# Altium schematic symbol library 2009.SchLib: 216 symbols
Pins are listed as number, name and electrical type; pins without a type are passive.

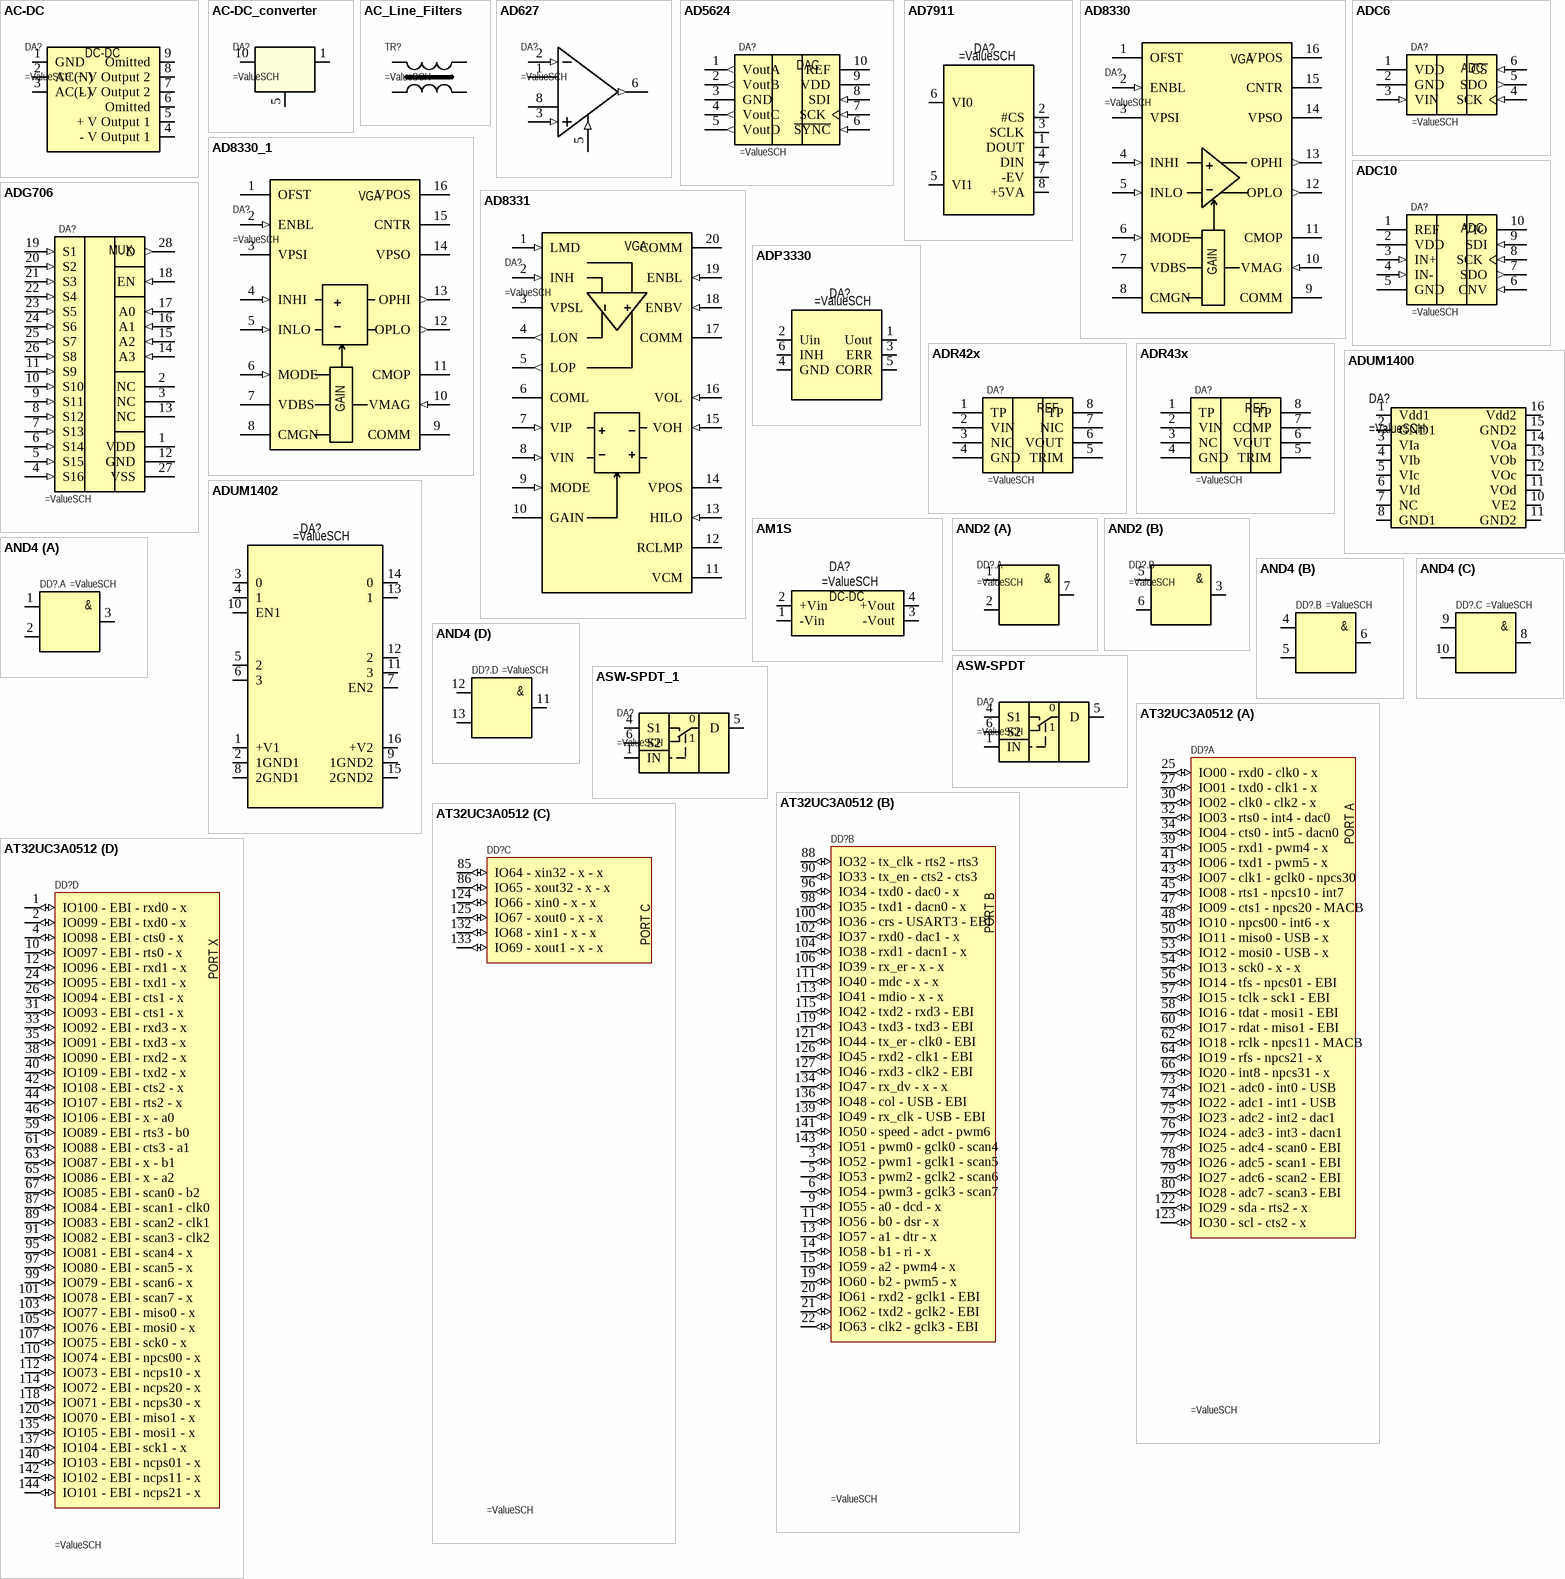
[diagram p0: symbols AC-DC to AT32UC3A0512]

## AC-DC
designator DA?
pins: 1 GND (power), 2 AC(N) (power), 3 AC(L) (power), 4 - V Output 1, 5 + V Output 1 (power), 6 Omitted, 7 - V Output 2, 8 + V Output 2 (power), 9 Omitted
text: DC-DC

## AC-DC_converter
designator DA?
pins: 1 Vout (power), 5 GND (power), 10 Vin (power)

## AC_Line_Filters
designator TR?
pins: 1, 2, 3, 4

## AD627
designator DA?
=Description
pins: 1 RG, 2 -IN (in), 3 +IN (in), 4 V- (power) hidden to GND, 5 REF (in), 6 OUT (out), 7 V+ (power) hidden to VCC, 8 RG

## AD5624
designator DA?
=Description
pins: 1 VoutA (out), 2 VoutB (out), 3 GND (power), 4 VoutC (out), 5 VoutD (out), 6 ~{SYNC} (in), 7 SCK (in), 8 SDI (in), 9 VDD (power), 10 REF (power)
text: DAC

## AD7911
designator DA?
pins: 1 DOUT, 2 #CS, 3 SCLK, 4 DIN, 5 VI1, 6 VI0, 7 -EV, 8 +5VA

## AD8330
designator DA?
=Description
pins: 1 OFST, 2 ENBL (in), 3 VPSI (power), 4 INHI (in), 5 INLO (in), 6 MODE (in), 7 VDBS (power), 8 CMGN, 9 COMM (power), 10 VMAG (in), 11 CMOP (power), 12 OPLO (out), 13 OPHI (out), 14 VPSO (power), 15 CNTR, 16 VPOS (power)
text: VGA; GAIN

## AD8330_1
designator DA?
=Description
pins: 1 OFST, 2 ENBL (in), 3 VPSI (power), 4 INHI (in), 5 INLO (in), 6 MODE (in), 7 VDBS (power), 8 CMGN, 9 COMM (power), 10 VMAG (in), 11 CMOP (power), 12 OPLO (out), 13 OPHI (out), 14 VPSO (power), 15 CNTR, 16 VPOS (power)
text: VGA; GAIN

## AD8331
designator DA?
=Description
pins: 1 LMD (in), 2 INH (in), 3 VPSL (power), 4 LON (out), 5 LOP (out), 6 COML (power), 7 VIP (in), 8 VIN (in), 9 MODE (in), 10 GAIN, 11 VCM (power), 12 RCLMP, 13 HILO (in), 14 VPOS (power), 15 VOH (in), 16 VOL (in), 17 COMM (power), 18 ENBV (in), 19 ENBL (in), 20 COMM (power)
text: VGA

## ADC6
designator DA?
=Description
pins: 1 VDD (power), 2 GND (power), 3 VIN (in), 4 SCK (in), 5 SDO (out), 6 ~{CS} (in)
text: ADC

## ADC10
designator DA?
=Description
pins: 1 REF (power), 2 VDD (power), 3 IN+ (in), 4 IN- (in), 5 GND (power), 6 CNV (in), 7 SDO (out), 8 SCK (in), 9 SDI (in), 10 VIO (power)
text: ADC

## ADG706
designator DA?
=Description
pins: 1 VDD (power), 2 NC, 3 NC, 4 S16 (in), 5 S15 (in), 6 S14 (in), 7 S13 (in), 8 S12 (in), 9 S11 (in), 10 S10 (in), 11 S9 (in), 12 GND (power), 13 NC, 14 A3 (in), 15 A2 (in), 16 A1 (in), 17 A0 (in), 18 EN (in), 19 S1 (in), 20 S2 (in), 21 S3 (in), 22 S4 (in), 23 S5 (in), 24 S6 (in), 25 S7 (in), 26 S8 (in), 27 VSS (power), 28 D (out)
text: MUX

## ADP3330
designator DA?
pins: 1 Uout, 2 Uin, 3 ERR, 4 GND, 5 CORR, 6 INH

## ADR42x
designator DA?
=Description
pins: 1 TP, 2 VIN (power), 3 NIC, 4 GND (power), 5 TRIM, 6 VOUT (power), 7 NIC, 8 TP
text: REF

## ADR43x
designator DA?
=Description
pins: 1 TP, 2 VIN (power), 3 NC, 4 GND (power), 5 TRIM, 6 VOUT (power), 7 COMP, 8 TP
text: REF

## ADUM1400
designator DA?
pins: 1 Vdd1, 2 GND1, 3 VIa, 4 VIb, 5 VIc, 6 VId, 7 NC, 8 GND1, 10 VE2, 11 VOd, 11 GND2, 12 VOc, 13 VOb, 14 VOa, 15 GND2, 16 Vdd2

## ADUM1402
designator DA?
pins: 1 +V1, 2 1GND1, 3 0, 4 1, 5 2, 6 3, 7 EN2, 8 2GND1, 9 1GND2, 10 EN1, 11 3, 12 2, 13 1, 14 0, 15 2GND2, 16 +V2

## AM1S
designator DA?
pins: 1 -Vin (power), 2 +Vin (power), 3 -Vout (power), 4 +Vout (power)
text: DC-DC

## AND2
designator DD?.
part A pins: 1, 2, 4 GND (power) hidden to GND, 7, 8 VCC (power) hidden to VCC
part B pins: 3, 4 GND (power) hidden to GND, 5, 6, 8 VCC (power) hidden to VCC
part A text: &
part B text: &

## AND4
designator DD?.
part A pins: 1, 2, 3, 7 GND (power) hidden to GND, 14 VCC (power) hidden to VCC
part B pins: 4, 5, 6, 7 GND (power) hidden to GND, 14 VCC (power) hidden to VCC
part C pins: 7 GND (power) hidden to GND, 8, 9, 10, 14 VCC (power) hidden to VCC
part D pins: 7 GND (power) hidden to GND, 11, 12, 13, 14 VCC (power) hidden to VCC
part A text: &
part B text: &
part C text: &
part D text: &

## ASW-SPDT
designator DA?
=Designator
pins: 1 IN, 2 VDD (power) hidden to +5V, 3 GND (power) hidden to GND, 4 S1, 5 D, 6 S2
text: 0

## ASW-SPDT_1
designator DA?
=Designator
pins: 1 IN, 2 VDD (power) hidden to +5V, 3 GND (power) hidden to GND, 4 S1, 5 D, 6 S2
text: 0

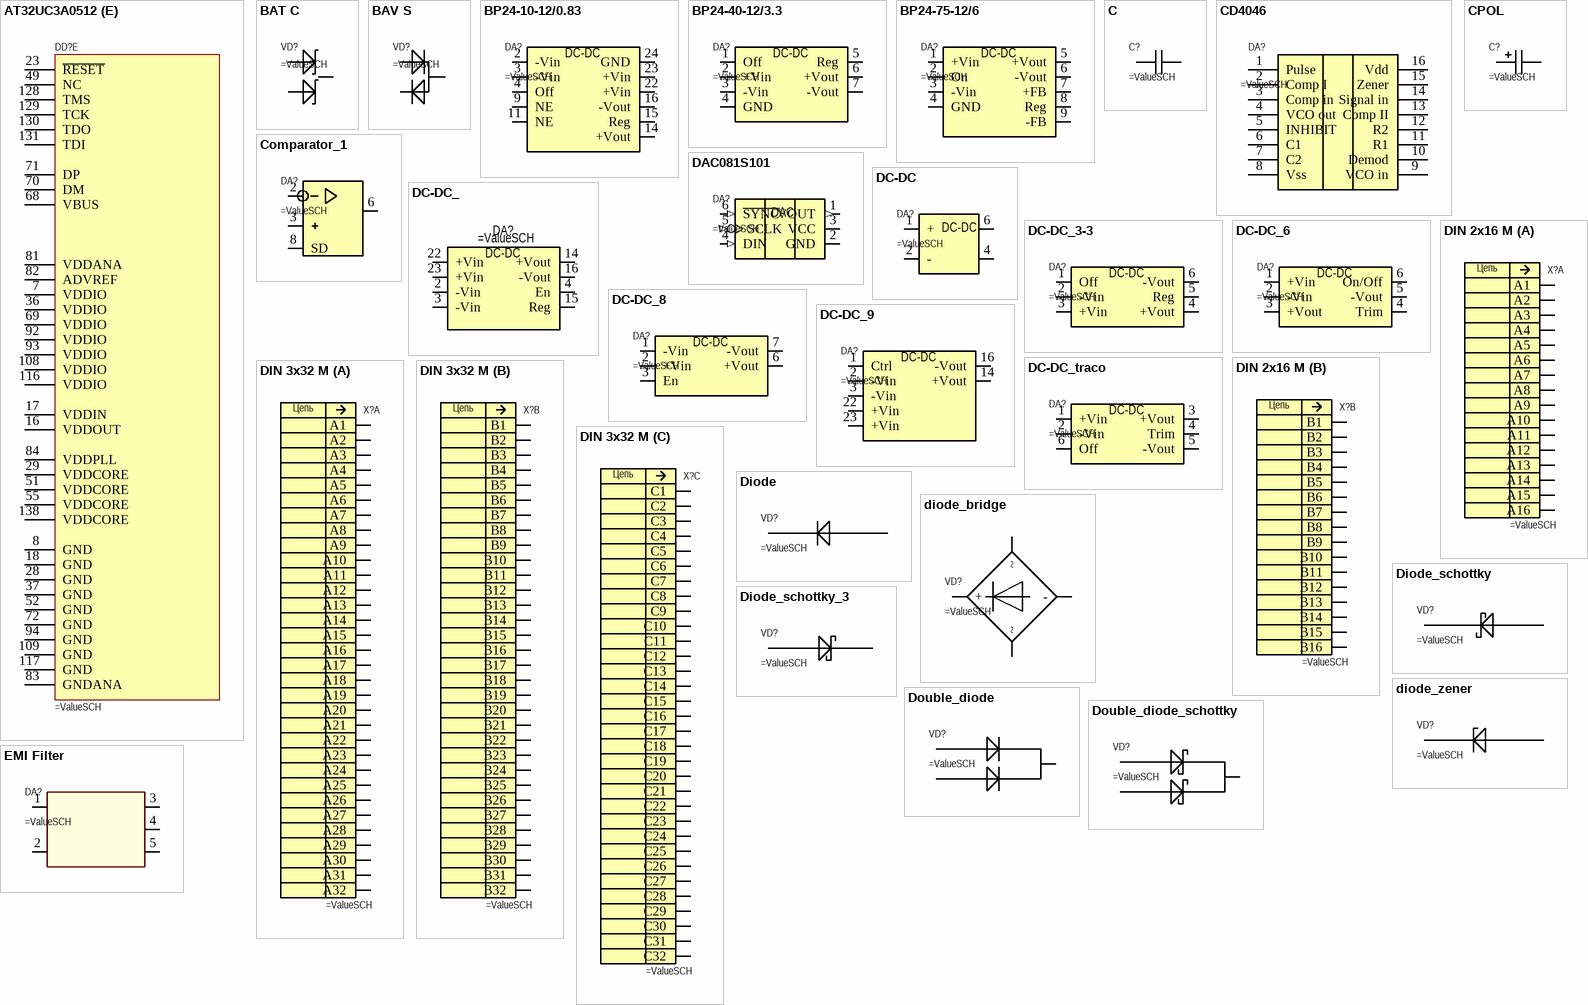
[diagram p1: symbols AT32UC3A0512 to EMI Filter]

## AT32UC3A0512
designator DD?
=Description; Value: *
footprint LQFP-144
part A pins: 25 IO00 - rxd0 - clk0 - x (io), 27 IO01 - txd0 - clk1 - x (io), 30 IO02 - clk0 - clk2 - x (io), 32 IO03 - rts0 - int4 - dac0 (io), 34 IO04 - cts0 - int5 - dacn0 (io), 39 IO05 - rxd1 - pwm4 - x (io), 41 IO06 - txd1 - pwm5 - x (io), 43 IO07 - clk1 - gclk0 - npcs30 (io), 45 IO08 - rts1 - npcs10 - int7 (io), 47 IO09 - cts1 - npcs20 - MACB (io), 48 IO10 - npcs00 - int6 - x (io), 50 IO11 - miso0 - USB - x (io), 53 IO12 - mosi0 - USB - x (io), 54 IO13 - sck0 - x - x (io), 56 IO14 - tfs - npcs01 - EBI (io), 57 IO15 - tclk - sck1 - EBI (io), 58 IO16 - tdat - mosi1 - EBI (io), 60 IO17 - rdat - miso1 - EBI (io), 62 IO18 - rclk - npcs11 - MACB (io), 64 IO19 - rfs - npcs21 - x (io), 66 IO20 - int8 - npcs31 - x (io), 73 IO21 - adc0 - int0 - USB (io), 74 IO22 - adc1 - int1 - USB (io), 75 IO23 - adc2 - int2 - dac1 (io), 76 IO24 - adc3 - int3 - dacn1 (io), 77 IO25 - adc4 - scan0 - EBI (io), 78 IO26 - adc5 - scan1 - EBI (io), 79 IO27 - adc6 - scan2 - EBI (io), 80 IO28 - adc7 - scan3 - EBI (io), 122 IO29 - sda - rts2 - x (io), 123 IO30 - scl - cts2 - x (io)
part B pins: 3 IO52 - pwm1 - gclk1 - scan5 (io), 5 IO53 - pwm2 - gclk2 - scan6 (io), 6 IO54 - pwm3 - gclk3 - scan7 (io), 9 IO55 - a0 - dcd - x (io), 11 IO56 - b0 - dsr - x (io), 13 IO57 - a1 - dtr - x (io), 14 IO58 - b1 - ri - x (io), 15 IO59 - a2 - pwm4 - x (io), 19 IO60 - b2 - pwm5 - x (io), 20 IO61 - rxd2 - gclk1 - EBI (io), 21 IO62 - txd2 - gclk2 - EBI (io), 22 IO63 - clk2 - gclk3 - EBI (io), 88 IO32 - tx_clk - rts2 - rts3 (io), 90 IO33 - tx_en - cts2 - cts3 (io), 96 IO34 - txd0 - dac0 - x (io), 98 IO35 - txd1 - dacn0 - x (io), 100 IO36 - crs - USART3 - EBI (io), 102 IO37 - rxd0 - dac1 - x (io), 104 IO38 - rxd1 - dacn1 - x (io), 106 IO39 - rx_er - x - x (io), 111 IO40 - mdc - x - x (io), 113 IO41 - mdio - x - x (io), 115 IO42 - txd2 - rxd3 - EBI (io), 119 IO43 - txd3 - txd3 - EBI (io), 121 IO44 - tx_er - clk0 - EBI (io), 126 IO45 - rxd2 - clk1 - EBI (io), 127 IO46 - rxd3 - clk2 - EBI (io), 134 IO47 - rx_dv - x - x (io), 136 IO48 - col - USB - EBI (io), 139 IO49 - rx_clk - USB - EBI (io), 141 IO50 - speed - adct - pwm6 (io), 143 IO51 - pwm0 - gclk0 - scan4 (io)
part C pins: 85 IO64 - xin32 - x - x (io), 86 IO65 - xout32 - x - x (io), 124 IO66 - xin0 - x - x (io), 125 IO67 - xout0 - x - x (io), 132 IO68 - xin1 - x - x (io), 133 IO69 - xout1 - x - x (io)
part D pins: 1 IO100 - EBI - rxd0 - x (io), 2 IO099 - EBI - txd0 - x (io), 4 IO098 - EBI - cts0 - x (io), 10 IO097 - EBI - rts0 - x (io), 12 IO096 - EBI - rxd1 - x (io), 24 IO095 - EBI - txd1 - x (io), 26 IO094 - EBI - cts1 - x (io), 31 IO093 - EBI - cts1 - x (io), 33 IO092 - EBI - rxd3 - x (io), 35 IO091 - EBI - txd3 - x (io), 38 IO090 - EBI - rxd2 - x (io), 40 IO109 - EBI - txd2 - x (io), 42 IO108 - EBI - cts2 - x (io), 44 IO107 - EBI - rts2 - x (io), 46 IO106 - EBI - x - a0 (io), 59 IO089 - EBI - rts3 - b0 (io), 61 IO088 - EBI - cts3 - a1 (io), 63 IO087 - EBI - x - b1 (io), 65 IO086 - EBI - x - a2 (io), 67 IO085 - EBI - scan0 - b2 (io), 87 IO084 - EBI - scan1 - clk0 (io), 89 IO083 - EBI - scan2 - clk1 (io), 91 IO082 - EBI - scan3 - clk2 (io), 95 IO081 - EBI - scan4 - x (io), 97 IO080 - EBI - scan5 - x (io), 99 IO079 - EBI - scan6 - x (io), 101 IO078 - EBI - scan7 - x (io), 103 IO077 - EBI - miso0 - x (io), 105 IO076 - EBI - mosi0 - x (io), 107 IO075 - EBI - sck0 - x (io), 110 IO074 - EBI - npcs00 - x (io), 112 IO073 - EBI - ncps10 - x (io), 114 IO072 - EBI - ncps20 - x (io), 118 IO071 - EBI - ncps30 - x (io), 120 IO070 - EBI - miso1 - x (io), 135 IO105 - EBI - mosi1 - x (io), 137 IO104 - EBI - sck1 - x (io), 140 IO103 - EBI - ncps01 - x (io), 142 IO102 - EBI - ncps11 - x (io), 144 IO101 - EBI - ncps21 - x (io)
part E pins: 7 VDDIO (power), 8 GND (power), 16 VDDOUT (power), 17 VDDIN (power), 18 GND (power), 23 ~{RESET}, 28 GND (power), 29 VDDCORE (power), 36 VDDIO (power), 37 GND (power), 49 NC, 51 VDDCORE (power), 52 GND (power), 55 VDDCORE (power), 68 VBUS, 69 VDDIO (power), 70 DM, 71 DP, 72 GND (power), 81 VDDANA (power), 82 ADVREF (power), 83 GNDANA (power), 84 VDDPLL (power), 92 VDDIO (power), 93 VDDIO (power), 94 GND (power), 108 VDDIO (power), 109 GND (power), 116 VDDIO (power), 117 GND (power), 128 TMS, 129 TCK, 130 TDO, 131 TDI, 138 VDDCORE (power)
part A text: PORT A
part B text: PORT B
part C text: PORT C
part D text: PORT X

## BAT C
designator VD?
=Description
pins: 1, 2, 3

## BAV S
designator VD?
=Description
pins: 1, 2, 3

## BP24-10-12/0.83
designator DA?
pins: 2 -Vin (power), 3 -Vin (power), 4 Off, 9 NE (power), 11 NE (power), 14 +Vout (power), 15 Reg, 16 -Vout (power), 22 +Vin, 23 +Vin, 24 GND (power)
text: DC-DC

## BP24-40-12/3.3
designator DA?
pins: 1 Off, 2 +Vin (power), 3 -Vin (power), 4 GND (power), 5 Reg, 6 +Vout (power), 7 -Vout (power)
text: DC-DC

## BP24-75-12/6
designator DA?
pins: 1 +Vin (power), 2 On, 3 -Vin (power), 4 GND (power), 5 +Vout (power), 6 -Vout (power), 7 +FB (power), 8 Reg, 9 -FB (power)
text: DC-DC

## C
designator C?
=Description
pins: 1, 2

## CD4046
designator DA?
pins: 1 Pulse (power), 2 Comp I, 3 Comp in, 4 VCO out, 5 INHIBIT (power), 6 C1, 7 C2, 8 Vss (power), 9 VCO in, 10 Demod, 11 R1, 12 R2, 13 Comp II, 14 Signal in (power), 15 Zener, 16 Vdd (power)

## Comparator_1
designator DA?
pins: 2 -, 3 +, 4 V- (power) hidden to GND, 6, 7 V+ (power) hidden to VCC, 8 SD

## CPOL
designator C?
=Description
pins: 1, 2

## DAC081S101
designator DA?
=Description
pins: 1 VOUT (out), 2 GND (power), 3 VCC (power), 4 DIN (in), 5 SCLK (in), 6 ~{SYNC} (in)
text: DAC

## DC-DC
designator DA?
pins: 1 + (power), 2 - (power), 4 (power), 6 (power)

## DC-DC_
designator DA?
pins: 2 -Vin (power), 3 -Vin (power), 4 En (power), 14 +Vout (power), 15 Reg (power), 16 -Vout (power), 22 +Vin (power), 23 +Vin (power)
text: DC-DC

## DC-DC_3-3
designator DA?
pins: 1 Off, 2 -Vin (power), 3 +Vin (power), 4 +Vout (power), 5 Reg, 6 -Vout (power)
text: DC-DC

## DC-DC_6
designator DA?
pins: 1 +Vin (power), 2 -Vin (power), 3 +Vout (power), 4 Trim, 5 -Vout (power), 6 On/Off
text: DC-DC

## DC-DC_8
designator DA?
pins: 1 -Vin (power), 2 +Vin (power), 3 En (power), 6 +Vout (power), 7 -Vout (power)
text: DC-DC

## DC-DC_9
designator DA?
pins: 1 Ctrl (power), 2 -Vin (power), 3 -Vin (power), 14 +Vout (power), 16 -Vout (power), 22 +Vin (power), 23 +Vin (power)
text: DC-DC

## DC-DC_traco
designator DA?
pins: 1 +Vin (power), 2 -Vin (power), 3 +Vout (power), 4 Trim, 5 -Vout (power), 6 Off
text: DC-DC

## DIN 2x16 M
designator X?
=Description
part A pins: A1, A2, A3, A4, A5, A6, A7, A8, A9, A10, A11, A12, A13, A14, A15, A16
part B pins: B1, B2, B3, B4, B5, B6, B7, B8, B9, B10, B11, B12, B13, B14, B15, B16
part A text: Цепь
part B text: Цепь

## DIN 3x32 M
designator X?
=Description
part A pins: A1, A2, A3, A4, A5, A6, A7, A8, A9, A10, A11, A12, A13, A14, A15, A16, A17, A18, A19, A20, A21, A22, A23, A24, A25, A26, A27, A28, A29, A30, A31, A32
part B pins: B1, B2, B3, B4, B5, B6, B7, B8, B9, B10, B11, B12, B13, B14, B15, B16, B17, B18, B19, B20, B21, B22, B23, B24, B25, B26, B27, B28, B29, B30, B31, B32
part C pins: C1, C2, C3, C4, C5, C6, C7, C8, C9, C10, C11, C12, C13, C14, C15, C16, C17, C18, C19, C20, C21, C22, C23, C24, C25, C26, C27, C28, C29, C30, C31, C32
part A text: Цепь
part B text: Цепь
part C text: Цепь

## Diode
designator VD?
pins: 1 C, 2 A

## diode_bridge
designator VD?
pins: 1 + (power), 2 ~ (power), 3 ~ (power), 4 - (power)

## Diode_schottky
designator VD?
pins: 1 C, 2 A

## Diode_schottky_3
designator VD?
pins: 1 C, 2 C, 3 A

## diode_zener
designator VD?
pins: 1 C, 2 A

## Double_diode
designator VD?
pins: 1 A, 2 C, 3 A

## Double_diode_schottky
designator VD?
pins: 1 A, 2 C, 3 A

## EMI Filter
designator DA?
pins: 1, 2, 3, 4 GND, 5

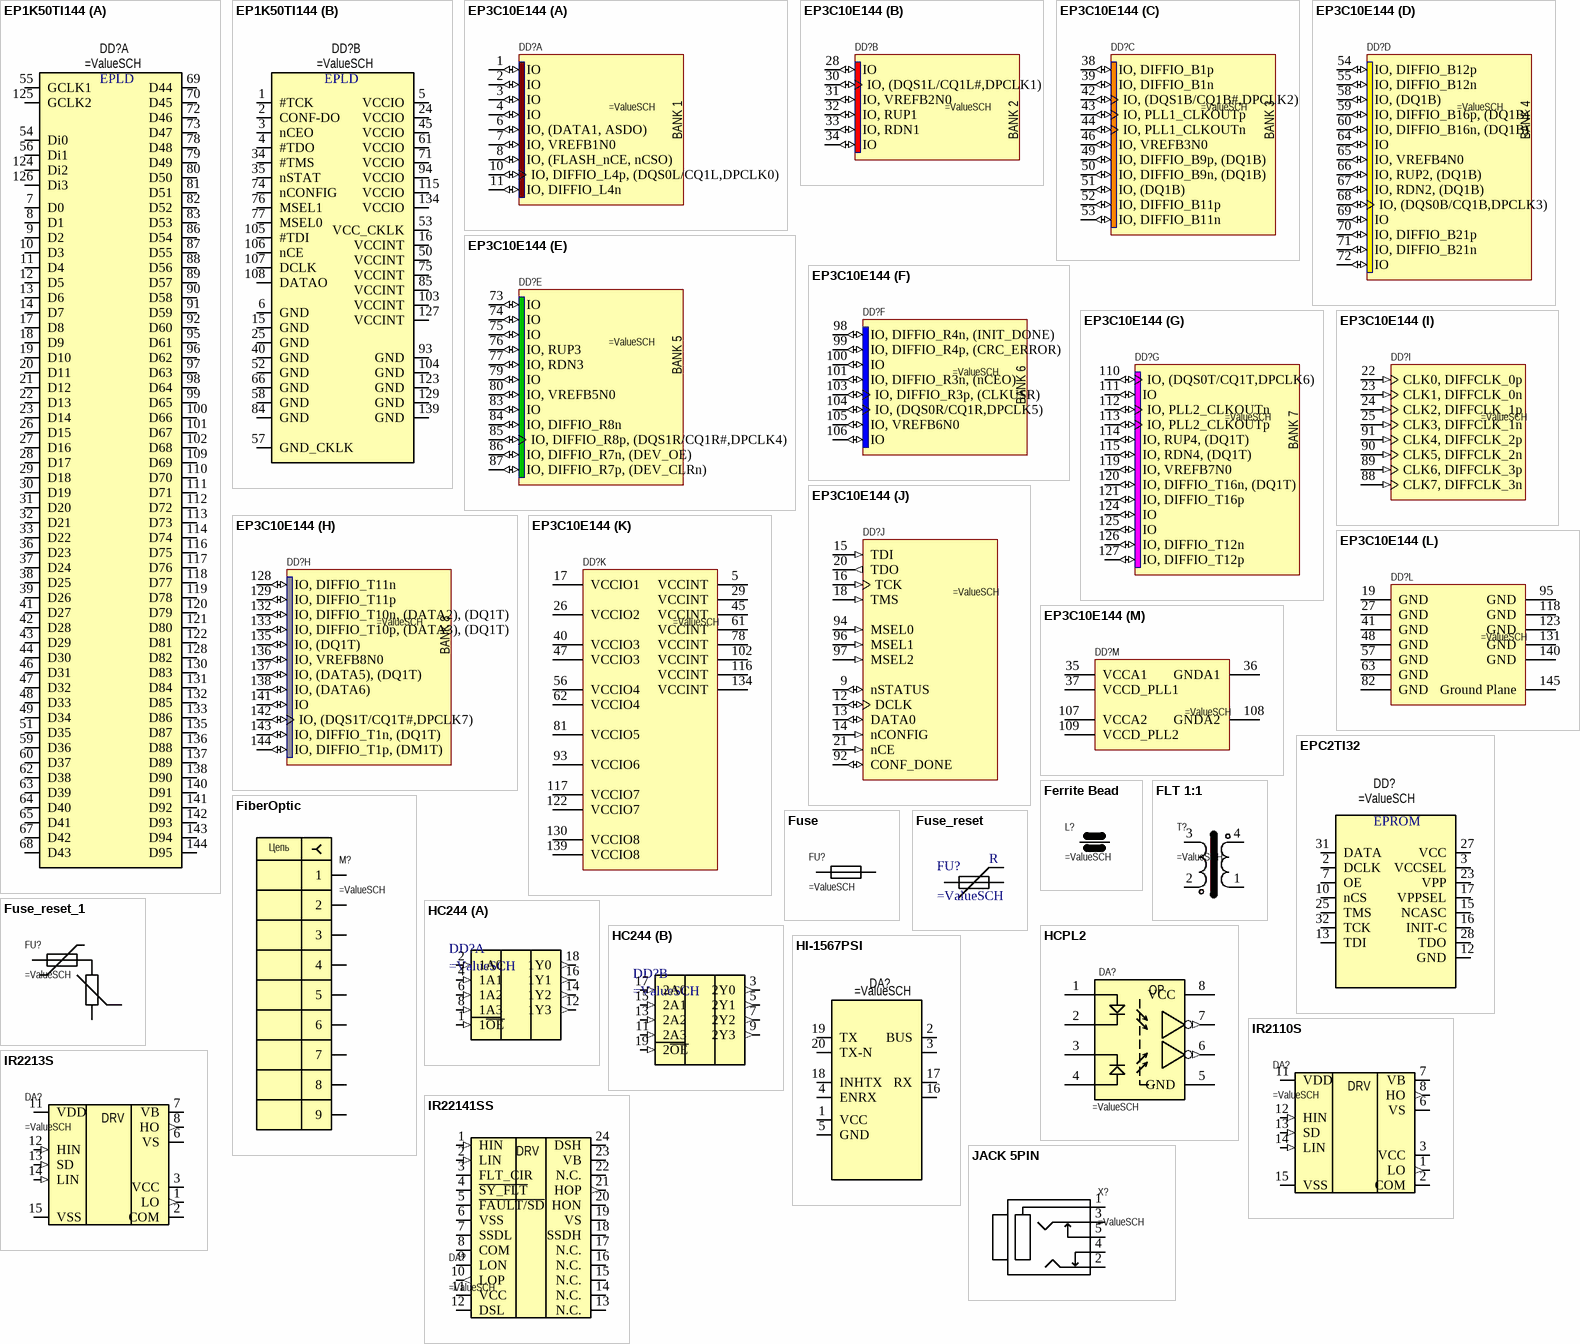
[diagram p2: symbols EP1K50TI144 to JACK 5PIN]

## EP1K50TI144
designator DD?
part A pins: 7 D0, 8 D1, 9 D2, 10 D3, 11 D4, 12 D5, 13 D6, 14 D7, 17 D8, 18 D9, 19 D10, 20 D11, 21 D12, 22 D13, 23 D14, 26 D15, 27 D16, 28 D17, 29 D18, 30 D19, 31 D20, 32 D21, 33 D22, 36 D23, 37 D24, 38 D25, 39 D26, 41 D27, 42 D28, 43 D29, 44 D30, 46 D31, 47 D32, 48 D33, 49 D34, 51 D35, 54 Di0, 55 GCLK1, 56 Di1, 59 D36, 60 D37, 62 D38, 63 D39, 64 D40, 65 D41, 67 D42, 68 D43, 69 D44, 70 D45, 72 D46, 73 D47, 78 D48, 79 D49, 80 D50, 81 D51, 82 D52, 83 D53, 86 D54, 87 D55, 88 D56, 89 D57, 90 D58, 91 D59, 92 D60, 95 D61, 96 D62, 97 D63, 98 D64, 99 D65, 100 D66, 101 D67, 102 D68, 109 D69, 110 D70, 111 D71, 112 D72, 113 D73, 114 D74, 116 D75, 117 D76, 118 D77, 119 D78, 120 D79, 121 D80, 122 D81, 124 Di2, 125 GCLK2, 126 Di3, 128 D82, 130 D83, 131 D84, 132 D85, 133 D86, 135 D87, 136 D88, 137 D89, 138 D90, 140 D91, 141 D92, 142 D93, 143 D94, 144 D95
part B pins: 1 #TCK, 2 CONF-DO, 3 nCEO, 4 #TDO, 5 VCCIO, 6 GND, 15 GND, 16 VCCINT, 24 VCCIO, 25 GND, 34 #TMS, 35 nSTAT, 40 GND, 45 VCCIO, 50 VCCINT, 52 GND, 53 VCC_CKLK, 57 GND_CKLK, 58 GND, 61 VCCIO, 66 GND, 71 VCCIO, 74 nCONFIG, 75 VCCINT, 76 MSEL1, 77 MSEL0, 84 GND, 85 VCCINT, 93 GND, 94 VCCIO, 103 VCCINT, 104 GND, 105 #TDI, 106 nCE, 107 DCLK, 108 DATAO, 115 VCCIO, 123 GND, 127 VCCINT, 129 GND, 134 VCCIO, 139 GND
part A text: EPLD
part B text: EPLD

## EP3C10E144
designator DD?
=Description
part A pins: 1 IO (io), 2 IO (io), 3 IO (io), 4 IO (io), 6 IO, (DATA1, ASDO) (io), 7 IO, VREFB1N0 (io), 8 IO, (FLASH_nCE, nCSO) (io), 10 IO, DIFFIO_L4p, (DQS0L/CQ1L,DPCLK0) (io), 11 IO, DIFFIO_L4n (io)
part B pins: 28 IO (io), 30 IO, (DQS1L/CQ1L#,DPCLK1) (io), 31 IO, VREFB2N0 (io), 32 IO, RUP1 (io), 33 IO, RDN1 (io), 34 IO (io)
part C pins: 38 IO, DIFFIO_B1p (io), 39 IO, DIFFIO_B1n (io), 42 IO, (DQS1B/CQ1B#,DPCLK2) (io), 43 IO, PLL1_CLKOUTp (io), 44 IO, PLL1_CLKOUTn (io), 46 IO, VREFB3N0 (io), 49 IO, DIFFIO_B9p, (DQ1B) (io), 50 IO, DIFFIO_B9n, (DQ1B) (io), 51 IO, (DQ1B) (io), 52 IO, DIFFIO_B11p (io), 53 IO, DIFFIO_B11n (io)
part D pins: 54 IO, DIFFIO_B12p (io), 55 IO, DIFFIO_B12n (io), 58 IO, (DQ1B) (io), 59 IO, DIFFIO_B16p, (DQ1B) (io), 60 IO, DIFFIO_B16n, (DQ1B) (io), 64 IO (io), 65 IO, VREFB4N0 (io), 66 IO, RUP2, (DQ1B) (io), 67 IO, RDN2, (DQ1B) (io), 68 IO, (DQS0B/CQ1B,DPCLK3) (io), 69 IO (io), 70 IO, DIFFIO_B21p (io), 71 IO, DIFFIO_B21n (io), 72 IO (io)
part E pins: 73 IO (io), 74 IO (io), 75 IO (io), 76 IO, RUP3 (io), 77 IO, RDN3 (io), 79 IO (io), 80 IO, VREFB5N0 (io), 83 IO (io), 84 IO, DIFFIO_R8n (io), 85 IO, DIFFIO_R8p, (DQS1R/CQ1R#,DPCLK4) (io), 86 IO, DIFFIO_R7n, (DEV_OE) (io), 87 IO, DIFFIO_R7p, (DEV_CLRn) (io)
part F pins: 98 IO, DIFFIO_R4n, (INIT_DONE) (io), 99 IO, DIFFIO_R4p, (CRC_ERROR) (io), 100 IO (io), 101 IO, DIFFIO_R3n, (nCEO) (io), 103 IO, DIFFIO_R3p, (CLKUSR) (io), 104 IO, (DQS0R/CQ1R,DPCLK5) (io), 105 IO, VREFB6N0 (io), 106 IO (io)
part G pins: 110 IO, (DQS0T/CQ1T,DPCLK6) (io), 111 IO (io), 112 IO, PLL2_CLKOUTn (io), 113 IO, PLL2_CLKOUTp (io), 114 IO, RUP4, (DQ1T) (io), 115 IO, RDN4, (DQ1T) (io), 119 IO, VREFB7N0 (io), 120 IO, DIFFIO_T16n, (DQ1T) (io), 121 IO, DIFFIO_T16p (io), 124 IO (io), 125 IO (io), 126 IO, DIFFIO_T12n (io), 127 IO, DIFFIO_T12p (io)
part H pins: 128 IO, DIFFIO_T11n (io), 129 IO, DIFFIO_T11p (io), 132 IO, DIFFIO_T10n, (DATA2), (DQ1T) (io), 133 IO, DIFFIO_T10p, (DATA3), (DQ1T) (io), 135 IO, (DQ1T) (io), 136 IO, VREFB8N0 (io), 137 IO, (DATA5), (DQ1T) (io), 138 IO, (DATA6) (io), 141 IO (io), 142 IO, (DQS1T/CQ1T#,DPCLK7) (io), 143 IO, DIFFIO_T1n, (DQ1T) (io), 144 IO, DIFFIO_T1p, (DM1T) (io)
part I pins: 22 CLK0, DIFFCLK_0p (in), 23 CLK1, DIFFCLK_0n (in), 24 CLK2, DIFFCLK_1p (in), 25 CLK3, DIFFCLK_1n (in), 88 CLK7, DIFFCLK_3n (in), 89 CLK6, DIFFCLK_3p (in), 90 CLK5, DIFFCLK_2n (in), 91 CLK4, DIFFCLK_2p (in)
part J pins: 9 nSTATUS (io), 12 DCLK (io), 13 DATA0 (io), 14 nCONFIG (in), 15 TDI (in), 16 TCK (in), 18 TMS (in), 20 TDO (out), 21 nCE (in), 92 CONF_DONE (io), 94 MSEL0 (in), 96 MSEL1 (in), 97 MSEL2 (in)
part K pins: 5 VCCINT (power), 17 VCCIO1 (power), 26 VCCIO2 (power), 29 VCCINT (power), 40 VCCIO3 (power), 45 VCCINT (power), 47 VCCIO3 (power), 56 VCCIO4 (power), 61 VCCINT (power), 62 VCCIO4 (power), 78 VCCINT (power), 81 VCCIO5 (power), 93 VCCIO6 (power), 102 VCCINT (power), 116 VCCINT (power), 117 VCCIO7 (power), 122 VCCIO7 (power), 130 VCCIO8 (power), 134 VCCINT (power), 139 VCCIO8 (power)
part L pins: 19 GND (power), 27 GND (power), 41 GND (power), 48 GND (power), 57 GND (power), 63 GND (power), 82 GND (power), 95 GND (power), 118 GND (power), 123 GND (power), 131 GND (power), 140 GND (power), 145 Ground Plane (power)
part M pins: 35 VCCA1 (power), 36 GNDA1 (power), 37 VCCD_PLL1 (power), 107 VCCA2 (power), 108 GNDA2 (power), 109 VCCD_PLL2 (power)
part A text: BANK 1
part B text: BANK 2
part C text: BANK 3
part D text: BANK 4
part E text: BANK 5
part F text: BANK 6
part G text: BANK 7
part H text: BANK 8

## EPC2TI32
designator DD?
pins: 2 DCLK, 3 VCCSEL, 7 OE, 10 nCS, 12 GND, 13 TDI, 15 NCASC, 16 INIT-C, 17 VPPSEL, 23 VPP, 25 TMS, 27 VCC, 28 TDO, 31 DATA, 32 TCK
text: EPROM

## Ferrite Bead
designator L?
=Description
pins: 1, 2

## FiberOptic
designator M?
=Description
pins: 1, 2, 3, 4, 5, 6, 7, 8, 9
text: Цепь

## FLT 1:1
designator T?
=Description
pins: 1, 2, 3, 4

## Fuse
designator FU?
pins: 1, 2

## Fuse_reset
designator FU?
pins: 1, 2
text: R

## Fuse_reset_1
designator FU?
pins: 1, 2, 3

## HC244
designator DD?
OCT 3ST BUFFER
pins on every part: 10 GND (power) hidden to GND, 20 VCC (power) hidden to VCC
part A pins: 1 1~{OE} (in), 2 1A0 (in), 4 1A1 (in), 6 1A2 (in), 8 1A3 (in), 12 1Y3 (out), 14 1Y2 (out), 16 1Y1 (out), 18 1Y0 (out)
part B pins: 3 2Y0 (out), 5 2Y1 (out), 7 2Y2 (out), 9 2Y3 (out), 11 2A3 (in), 13 2A2 (in), 15 2A1 (in), 17 2A0 (in), 19 2~{OE} (in)

## HCPL2
designator DA?
=Description
pins: 1 A1, 2 C1, 3 C2, 4 A2, 5 GND, 6 OUT2 (out), 7 OUT1 (out), 8 VCC
text: OP

## HI-1567PSI
designator DA?
pins: 1 VCC (power), 2 BUS, 3, 4 ENRX, 5 GND (power), 16, 17 RX, 18 INHTX, 19 TX, 20 TX-N

## IR2110S
designator DA?
pins: 1 LO (out), 2 COM (power), 3 VCC (power), 6 VS (power), 7 VB (power), 8 HO (out), 11 VDD (power), 12 HIN (in), 13 SD (in), 14 LIN (in), 15 VSS (power)
text: DRV

## IR2213S
designator DA?
pins: 1 LO (out), 2 COM (power), 3 VCC (power), 6 VS (power), 7 VB (power), 8 HO (out), 11 VDD (power), 12 HIN (in), 13 SD (in), 14 LIN (in), 15 VSS (power)
text: DRV

## IR22141SS
designator DA?
=Description
pins: 1 HIN (in), 2 LIN (in), 3 FLT_CIR, 4 ~{SY_FLT}, 5 ~{FAULT/SD}, 6 VSS (power), 7 SSDL, 8 COM (power), 9 LON, 10 LOP (out), 11 VCC (power), 12 DSL, 13 N.C., 14 N.C., 15 N.C., 16 N.C., 17 N.C., 18 SSDH, 19 VS (power), 20 HON, 21 HOP (out), 22 N.C., 23 VB (power), 24 DSH
text: DRV

## JACK 5PIN
designator X?
=Description
pins: 1, 2, 3, 4, 5

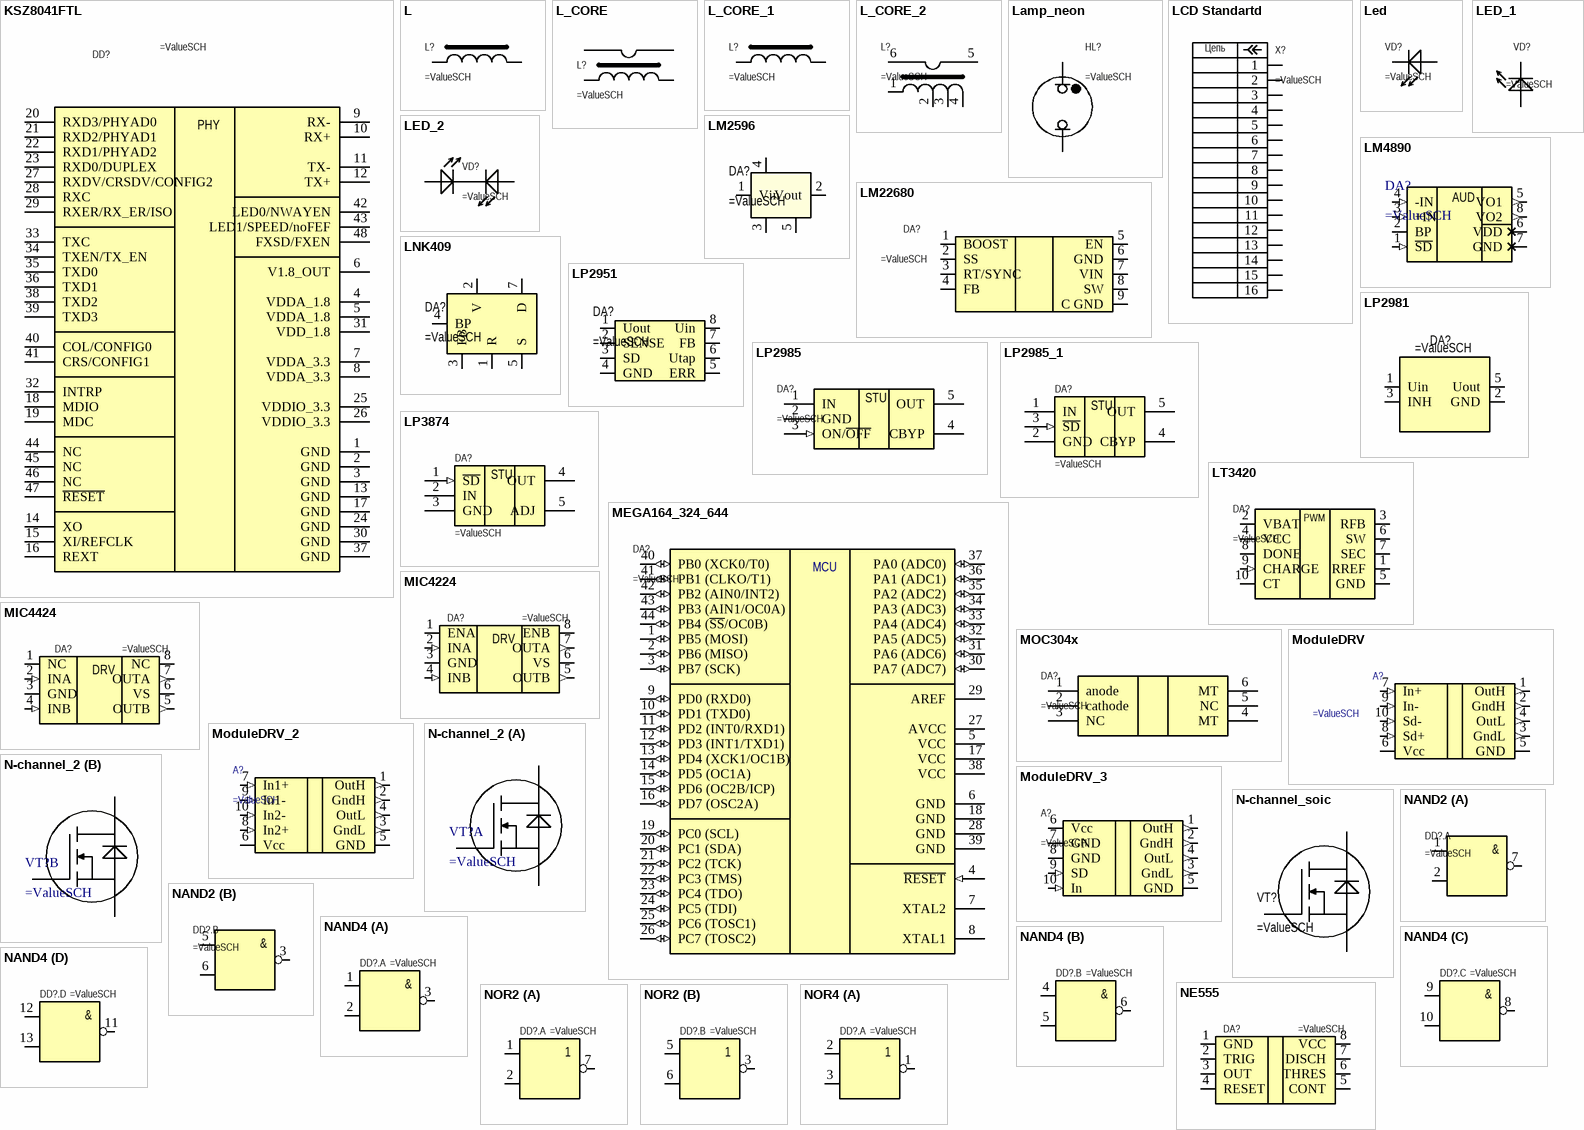
[diagram p3: symbols KSZ8041FTL to NOR4]

## KSZ8041FTL
designator DD?
=Description
pins: 1 GND (power), 2 GND (power), 3 GND (power), 4 VDDA_1.8 (power), 5 VDDA_1.8 (power), 6 V1.8_OUT (power), 7 VDDA_3.3 (power), 8 VDDA_3.3 (power), 9 RX- (power), 10 RX+ (power), 11 TX- (power), 12 TX+ (power), 13 GND (power), 14 XO (power), 15 XI/REFCLK (power), 16 REXT (power), 17 GND (power), 18 MDIO (power), 19 MDC (power), 20 RXD3/PHYAD0 (power), 21 RXD2/PHYAD1 (power), 22 RXD1/PHYAD2 (power), 23 RXD0/DUPLEX (power), 24 GND (power), 25 VDDIO_3.3 (power), 26 VDDIO_3.3 (power), 27 RXDV/CRSDV/CONFIG2 (power), 28 RXC (power), 29 RXER/RX_ER/ISO (power), 30 GND (power), 31 VDD_1.8 (power), 32 INTRP (power), 33 TXC (power), 34 TXEN/TX_EN (power), 35 TXD0 (power), 36 TXD1 (power), 37 GND (power), 38 TXD2 (power), 39 TXD3 (power), 40 COL/CONFIG0 (power), 41 CRS/CONFIG1 (power), 42 LED0/NWAYEN (power), 43 LED1/SPEED/noFEF (power), 44 NC (power), 45 NC (power), 46 NC (power), 47 ~{RESET} (power), 48 FXSD/FXEN (power)
text: PHY

## L
designator L?
=Description
pins: 1, 2

## L_CORE
designator L?
pins: 1, 2, 3, 4

## L_CORE_1
designator L?
pins: 5 1, 14 2

## L_CORE_2
designator L?
pins: 1, 2, 3, 4, 5, 6

## Lamp_neon
designator HL?
pins: 1, 2

## LCD Standartd
designator X?
=Description
pins: 1, 2, 3, 4, 5, 6, 7, 8, 9, 10, 11, 12, 13, 14, 15, 16
text: Цепь

## Led
designator VD?
pins: 1 C, 2 A

## LED_1
designator VD?
=Description
pins: 1 A, 2 C

## LED_2
designator VD?
pins: 1 A, 2 C, 2 C, 3 A

## LM2596
designator DA?
pins: 1 Vin (power), 2 Vout (power), 3 GND (power), 4 FeedBack, 5 ON/OFF (power)

## LM4890
designator DA?
=Description
pins: 1 ~{SD} (in), 2 BP, 3 +IN (in), 4 -IN (in), 5 VO1 (out), 6 VDD (power), 7 GND (power), 8 VO2 (out)
text: AUD

## LM22680
designator DA?
pins: 1 BOOST, 2 SS, 3 RT/SYNC, 4 FB, 5 EN, 6 GND, 7 VIN, 8 SW, 9 C GND

## LNK409
designator DA?
pins: 1 R, 2 V, 3 FB, 4 BP, 5 S, 7 D

## LP2951
designator DA?
pins: 1 Uout, 2 SENSE, 3 SD, 4 GND, 5 ERR, 6 Utap, 7 FB, 8 Uin

## LP2981
designator DA?
pins: 1 Uin, 2 GND, 3 INH, 5 Uout

## LP2985
designator DA?
=Description
pins: 1 IN (power), 2 GND (power), 3 ON/~{OFF} (in), 4 CBYP, 5 OUT (power)
text: STU

## LP2985_1
designator DA?
=Description
pins: 1 IN (power), 2 GND (power), 3 ~{SD} (in), 4 CBYP, 5 OUT (power)
text: STU

## LP3874
designator DA?
=Description
pins: 1 ~{SD} (in), 2 IN (power), 3 GND (power), 4 OUT (power), 5 ADJ
text: STU

## LT3420
designator DA?
=Description
pins: 1 RREF, 2 VBAT (power), 3 RFB, 4 VCC (power), 5 GND (power), 6 SW, 7 SEC, 8 DONE (oc), 9 CHARGE (in), 10 CT
text: PWM

## MEGA164_324_644
designator DA?
=Description
pins: 1 PB5 (MOSI) (io), 2 PB6 (MISO) (io), 3 PB7 (SCK) (io), 4 ~{RESET} (in), 5 VCC (power), 6 GND (power), 7 XTAL2, 8 XTAL1, 9 PD0 (RXD0) (io), 10 PD1 (TXD0) (io), 11 PD2 (INT0/RXD1) (io), 12 PD3 (INT1/TXD1) (io), 13 PD4 (XCK1/OC1B) (io), 14 PD5 (OC1A) (io), 15 PD6 (OC2B/ICP) (io), 16 PD7 (OSC2A) (io), 17 VCC (power), 18 GND (power), 19 PC0 (SCL) (io), 20 PC1 (SDA) (io), 21 PC2 (TCK) (io), 22 PC3 (TMS) (io), 23 PC4 (TDO) (io), 24 PC5 (TDI) (io), 25 PC6 (TOSC1) (io), 26 PC7 (TOSC2) (io), 27 AVCC (power), 28 GND (power), 29 AREF (power), 30 PA7 (ADC7) (io), 31 PA6 (ADC6) (io), 32 PA5 (ADC5) (io), 33 PA4 (ADC4) (io), 34 PA3 (ADC3) (io), 35 PA2 (ADC2) (io), 36 PA1 (ADC1) (io), 37 PA0 (ADC0) (io), 38 VCC (power), 39 GND (power), 40 PB0 (XCK0/T0) (io), 41 PB1 (CLKO/T1) (io), 42 PB2 (AIN0/INT2) (io), 43 PB3 (AIN1/OC0A) (io), 44 PB4 (~{SS}/OC0B) (io)
text: MCU

## MIC4224
designator DA?
pins: 1 ENA, 2 INA (in), 3 GND (power), 4 INB (in), 5 OUTB (out), 6 VS (power), 7 OUTA (out), 8 ENB (power)
text: DRV

## MIC4424
designator DA?
pins: 1 NC, 2 INA (in), 3 GND (power), 4 INB (in), 5 OUTB (out), 6 VS (power), 7 OUTA (out), 8 NC (power)
text: DRV

## MOC304x
designator DA?
pins: 1 anode, 2 cathode, 3 NC, 4 MT, 5 NC (power), 6 MT (power)

## ModuleDRV
designator A?
pins: 1 OutH (out), 2 GndH (out), 3 GndL (out), 4 OutL (out), 5 GND (power), 6 Vcc (power), 7 In+ (in), 8 Sd+ (in), 9 In- (in), 10 Sd- (in)

## ModuleDRV_2
designator A?
pins: 1 OutH (out), 2 GndH (out), 3 GndL (out), 4 OutL (out), 5 GND (power), 6 Vcc (power), 7 In1+ (in), 8 In2+ (in), 9 In1- (in), 10 In2- (in)

## ModuleDRV_3
designator A?
pins: 1 OutH (out), 2 GndH (out), 3 GndL (out), 4 OutL (out), 5 GND (power), 6 Vcc (power), 7 GND (power), 8 GND (power), 9 SD (in), 10 In (in)

## N-channel_2
designator VT?
part A pins: 1 S, 2 G, 8 D
part B pins: 3 S, 4 G, 5 D

## N-channel_soic
designator VT?
pins: 1 S, 2 S, 3 S, 4 G, 5 D, 6 D, 7 D, 8 D

## NAND2
designator DD?.
part A pins: 1, 2, 4 GND (power) hidden to GND, 7, 8 VCC (power) hidden to VCC
part B pins: 3, 4 GND (power) hidden to GND, 5, 6, 8 VCC (power) hidden to VCC
part A text: &
part B text: &

## NAND4
designator DD?.
part A pins: 1, 2, 3, 7 GND (power) hidden to GND, 14 VCC (power) hidden to VCC
part B pins: 4, 5, 6, 7 GND (power) hidden to GND, 14 VCC (power) hidden to VCC
part C pins: 7 GND (power) hidden to GND, 8, 9, 10, 14 VCC (power) hidden to VCC
part D pins: 7 GND (power) hidden to GND, 11, 12, 13, 14 VCC (power) hidden to VCC
part A text: &
part B text: &
part C text: &
part D text: &

## NE555
designator DA?
pins: 1 GND (power), 2 TRIG, 3 OUT, 4 RESET, 5 CONT, 6 THRES, 7 DISCH, 8 VCC (power)

## NOR2
designator DD?.
part A pins: 1, 2, 4 GND (power) hidden to GND, 7, 8 VCC (power) hidden to VCC
part B pins: 3, 4 GND (power) hidden to GND, 5, 6, 8 VCC (power) hidden to VCC

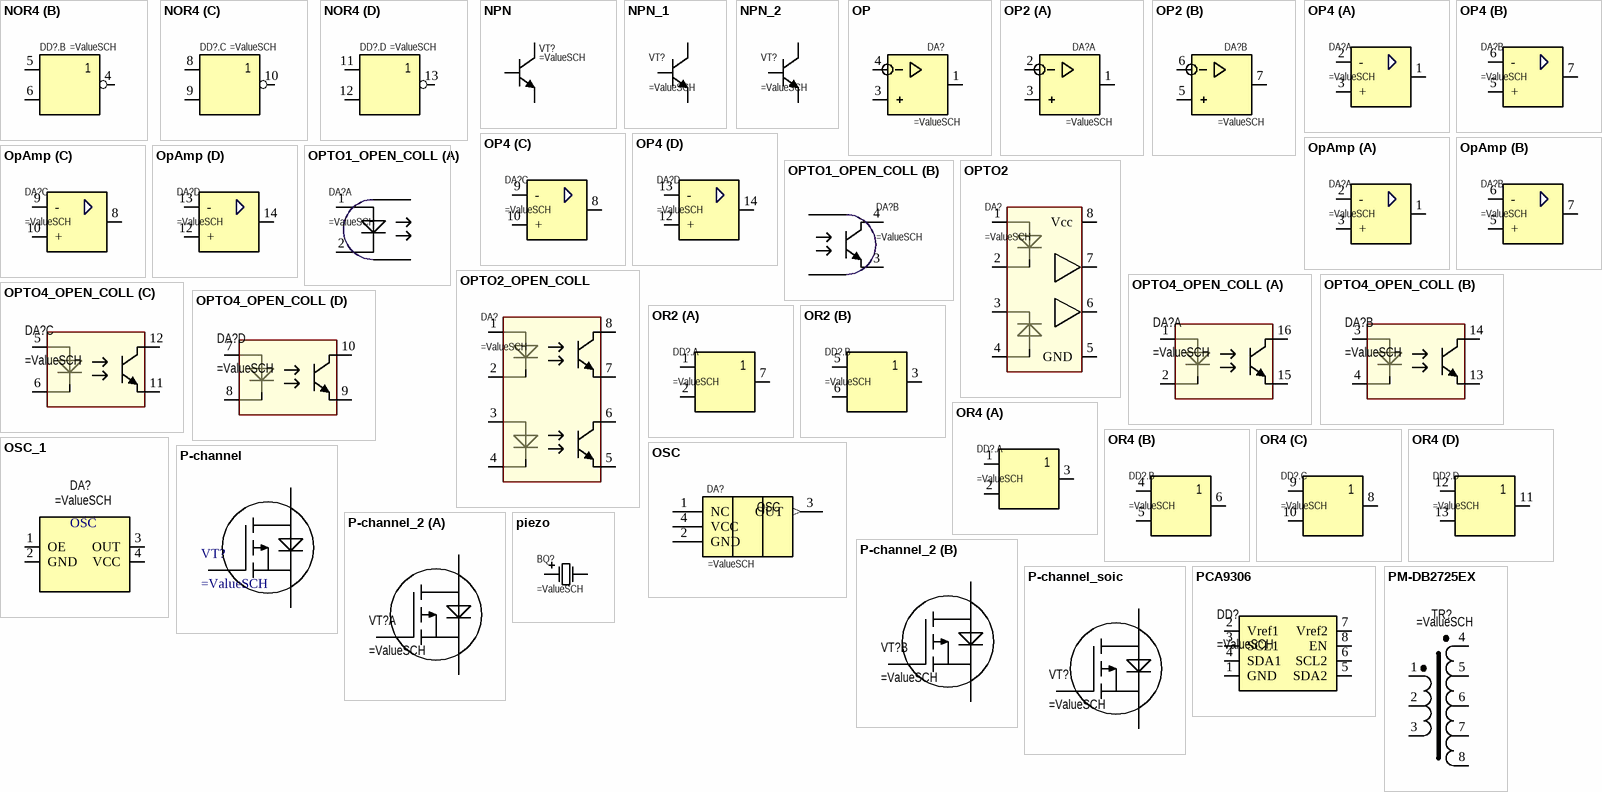
[diagram p4: symbols NOR4 to PM-DB2725EX]

## NOR4
designator DD?.
part A pins: 1, 2, 3, 7 GND (power) hidden to GND, 14 VCC (power) hidden to VCC
part B pins: 4, 5, 6, 7 GND (power) hidden to GND, 14 VCC (power) hidden to VCC
part C pins: 7 GND (power) hidden to GND, 8, 9, 10, 14 VCC (power) hidden to VCC
part D pins: 7 GND (power) hidden to GND, 11, 12, 13, 14 VCC (power) hidden to VCC

## NPN
designator VT?
=Description
pins: 1 B, 2 E, 3 C

## NPN_1
designator VT?
pins: 1 B, 2 C, 3 E

## NPN_2
designator VT?
pins: 1 E, 2 B, 3 C

## OP
designator DA?
=Description
pins: 1, 2 V- (power) hidden to GND, 3 +, 4 -, 5 V+ (power) hidden to VCC

## OP2
designator DA?
=Description
pins on every part: 4 GND_ (power) hidden to GND_, 8 VCC_ (power) hidden to VCC_
part A pins: 1, 2 -, 3 +
part B pins: 5 +, 6 -, 7

## OP4
designator DA?
part A pins: 1 Out, 2 -, 3 +, 4 VCC+ (power) hidden to VCC+, 11 VCC- (power) hidden to VCC-
part B pins: 4 VCC+ (power) hidden to VCC+, 5 +, 6 -, 7 Out, 11 VCC- (power) hidden to VCC-
part C pins: 4 VCC+ (power) hidden to VCC+, 8 Out, 9 -, 10 +, 11 VCC- (power) hidden to VCC-
part D pins: 4 VCC+ (power) hidden to VCC+, 11 VCC- (power) hidden to VCC-, 12 +, 13 -, 14 Out

## OpAmp
designator DA?
part A pins: 1 Out, 2 -, 3 +, 4 VCC+ (power) hidden to VCC+, 11 VCC- (power) hidden to VCC-
part B pins: 4 VCC+ (power) hidden to VCC+, 5 +, 6 -, 7 Out, 11 VCC- (power) hidden to VCC-
part C pins: 4 VCC+ (power) hidden to VCC+, 8 Out, 9 -, 10 +, 11 VCC- (power) hidden to VCC-
part D pins: 4 VCC+ (power) hidden to VCC+, 11 VCC- (power) hidden to VCC-, 12 +, 13 -, 14 Out

## OPTO1_OPEN_COLL
designator DA?
part A pins: 1 A, 2 C
part B pins: 3, 4

## OPTO2
designator DA?
pins: 1 A, 2 C, 3 A, 4 C, 5 GND (power), 6, 7, 8 Vcc

## OPTO2_OPEN_COLL
designator DA?
pins: 1 A, 2 C, 3 A, 4 C, 5, 6, 7, 8

## OPTO4_OPEN_COLL
designator DA?
part A pins: 1 A, 2 C, 15, 16
part B pins: 3 A, 4 C, 13, 14
part C pins: 5 A, 6 C, 11, 12
part D pins: 7 A, 8 C, 9, 10

## OR2
designator DD?.
part A pins: 1, 2, 4 GND (power) hidden to GND, 7, 8 VCC (power) hidden to VCC
part B pins: 3, 4 GND (power) hidden to GND, 5, 6, 8 VCC (power) hidden to VCC

## OR4
designator DD?.
part A pins: 1, 2, 3, 7 GND (power) hidden to GND, 14 VCC (power) hidden to VCC
part B pins: 4, 5, 6, 7 GND (power) hidden to GND, 14 VCC (power) hidden to VCC
part C pins: 7 GND (power) hidden to GND, 8, 9, 10, 14 VCC (power) hidden to VCC
part D pins: 7 GND (power) hidden to GND, 11, 12, 13, 14 VCC (power) hidden to VCC

## OSC
designator DA?
=Description
pins: 1 NC, 2 GND (power), 3 OUT (out), 4 VCC (power)

## OSC_1
designator DA?
pins: 1 OE, 2 GND, 3 OUT, 4 VCC
text: OSC

## P-channel
designator VT?
pins: 1 G, 2 S, 3 D

## P-channel_2
designator VT?
part A pins: 1 S, 2 G, 8 D
part B pins: 3 S, 4 G, 5 D

## P-channel_soic
designator VT?
pins: 1 S, 2 S, 3 S, 4 G, 5 D, 6 D, 7 D, 8 D

## PCA9306
designator DD?
pins: 1 GND, 2 Vref1, 3 SCL1, 4 SDA1, 5 SDA2, 6 SCL2, 7 Vref2, 8 EN

## piezo
designator BQ?
pins: 1, 2

## PM-DB2725EX
designator TR?
pins: 1, 2, 3, 4, 5, 6, 7, 8

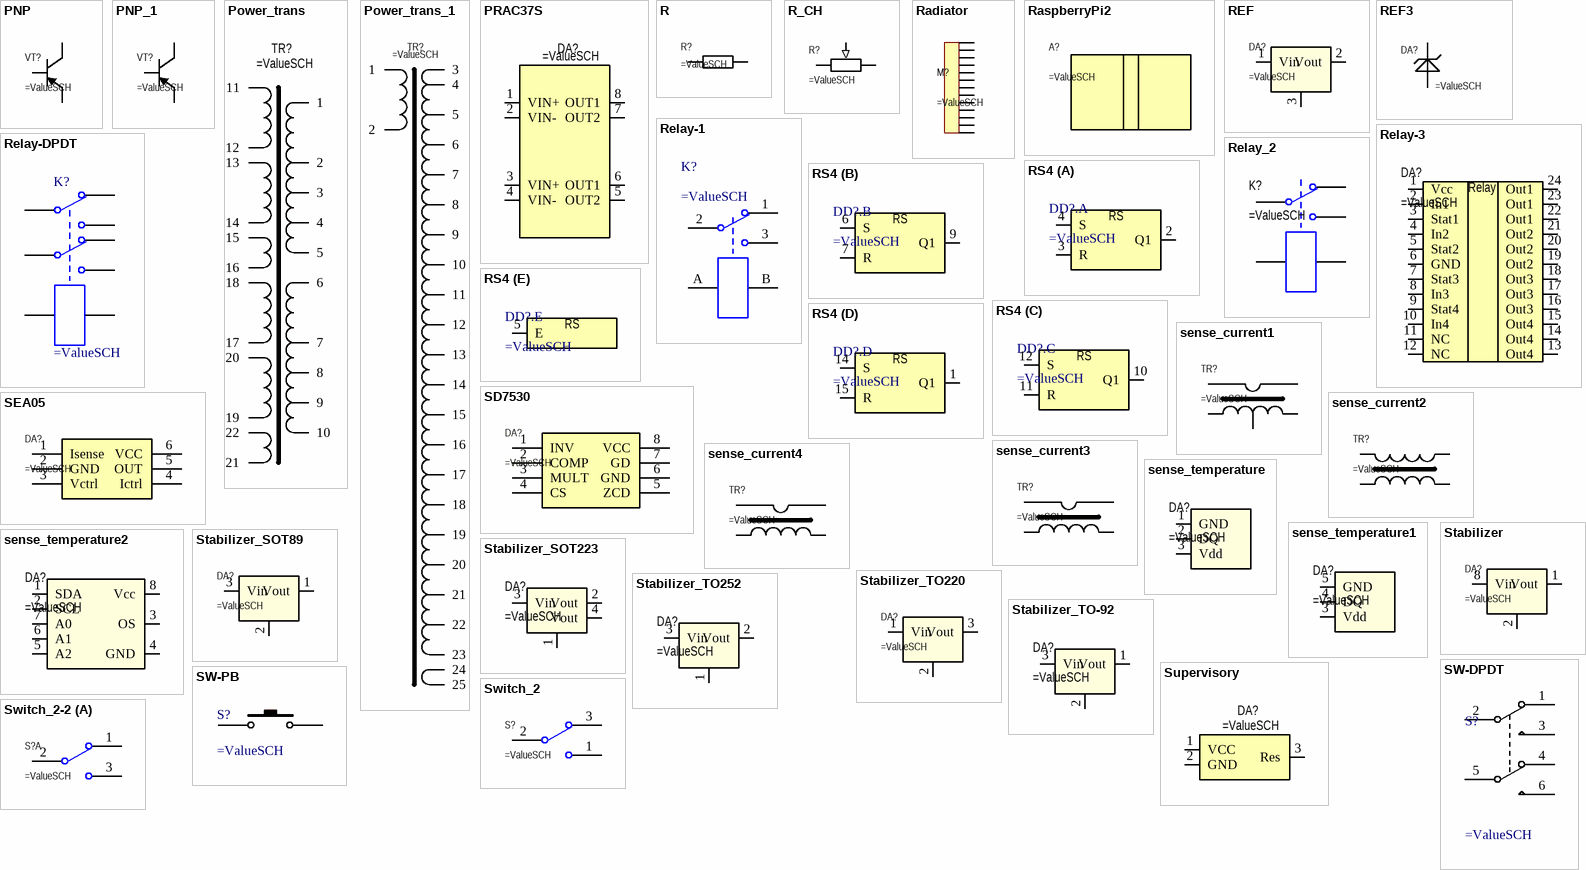
[diagram p5: symbols PNP to Switch_2-2]

## PNP
designator VT?
pins: 1 B, 2 E, 3 C

## PNP_1
designator VT?
pins: 1 B, 2 C, 3 E

## Power_trans
designator TR?
pins: 1, 2, 3, 4, 5, 6, 7, 8, 9, 10, 11, 12, 13, 14, 15, 16, 17, 18, 19, 20, 21, 22

## Power_trans_1
designator TR?
pins: 1, 2, 3, 4, 5, 6, 7, 8, 9, 10, 11, 12, 13, 14, 15, 16, 17, 18, 19, 20, 21, 22, 23, 24, 25

## PRAC37S
designator DA?
pins: 1 VIN+, 2 VIN-, 3 VIN+, 4 VIN-, 5 OUT2, 6 OUT1, 7 OUT2, 8 OUT1

## R
designator R?
=Description
pins: 1, 2

## R_CH
designator R?
pins: 1, 2 (in), 3

## Radiator
designator M?

## RaspberryPi2
designator A?

## REF
designator DA?
pins: 1 Vin (power), 2 Vout (power), 3 GND (power)

## REF3
designator DA?
pins: 1 C, 2 A, 3 NC hidden

## Relay-1
designator K?
pins: 1, 2, 3, A, B

## Relay-3
designator DA?
pins: 1 Vcc (power), 2 In1, 3 Stat1, 4 In2, 5 Stat2, 6 GND (power), 7 Stat3 (power), 8 In3, 9 Stat4, 10 In4, 11 NC, 12 NC, 13 Out4, 14 Out4, 15 Out4, 16 Out3, 17 Out3, 18 Out3, 19 Out2, 20 Out2, 21 Out2, 22 Out1, 23 Out1, 24 Out1
text: Relay

## Relay-DPDT
designator K?
Dual-Pole Dual-Throw Relay; Published: 24-Mar-1999; LatestRevisionDate: 17-Jul-2002; LatestRevisionNote: Re-released for DXP Platform.; PackageReference: DIP-P8; Publisher: Altium Limited
footprint DIP-P8/E10 (Dual-Pole Dual-Throw Relay; 8 Leads)
simulation model DPDTRELAY (Spice Subcircuit)
pins: 1, 2, 3, 4, 5, 6, 7, 8

## Relay_2
designator K?
pins: 1, 2, 3, 4, 6 5

## RS4
designator DD?.
part A pins: 2 Q1, 3 R, 4 S, 8 GND (power) hidden to GND, 16 VCC (power) hidden to VCC
part B pins: 6 S, 7 R, 8 GND (power) hidden to GND, 9 Q1, 16 VCC (power) hidden to VCC
part C pins: 8 GND (power) hidden to GND, 10 Q1, 11 R, 12 S, 16 VCC (power) hidden to VCC
part D pins: 1 Q1, 8 GND (power) hidden to GND, 14 S, 15 R, 16 VCC (power) hidden to VCC
part E pins: 5 E, 8 GND (power) hidden to GND, 16 VCC (power) hidden to VCC
part A text: RS
part B text: RS
part C text: RS
part D text: RS
part E text: RS

## SD7530
designator DA?
pins: 1 INV, 2 COMP, 3 MULT, 4 CS, 5 ZCD, 6 GND (power), 7 GD, 8 VCC (power)

## SEA05
designator DA?
pins: 1 Isense, 2 GND (power), 3 Vctrl, 4 Ictrl (power), 5 OUT, 6 VCC (power)

## sense_current1
designator TR?
pins: 1, 2, 3, 4, 5

## sense_current2
designator TR?
pins: 1 4, 3, 7 1, 8 2

## sense_current3
designator TR?
pins: 1, 3, 7, 8

## sense_current4
designator TR?
pins: 1, 3, 7, 8

## sense_temperature
designator DA?
pins: 1 GND (power), 2 DQ, 3 Vdd (power)

## sense_temperature1
designator DA?
pins: 3 Vdd (power), 4 DQ, 5 GND (power)

## sense_temperature2
designator DA?
pins: 1 SDA (power), 2 SCL, 3 OS (power), 4 GND (power), 5 A2 (power), 6 A1 (power), 7 A0 (power), 8 Vcc (power)

## Stabilizer
designator DA?
pins: 1 Vout (power), 2 GND (power), 3 GND (power) hidden to GND, 3 GND (power) hidden to GND, 4 GND (power) hidden to GND, 4 GND (power) hidden to GND, 4 GND (power) hidden to GND, 6 GND (power) hidden to GND, 7 GND (power) hidden to GND, 8 Vin (power)

## Stabilizer_SOT89
designator DA?
pins: 1 Vout (power), 2 GND1 (power), 3 Vin (power), 4 GND_ (power) hidden to GND

## Stabilizer_SOT223
designator DA?
pins: 1 GND1 (power), 2 Vout (power), 3 Vin (power), 4 Vout (power)

## Stabilizer_TO220
designator DA?
pins: 1 Vin (power), 2 GND (power), 3 Vout (power)

## Stabilizer_TO252
designator DA?
pins: 1 GND1 (power), 2 Vout (power), 3 Vin (power)

## Stabilizer_TO-92
designator DA?
pins: 1 Vout (power), 2 GND1 (power), 3 Vin (power)

## Supervisory
designator DA?
pins: 1 VCC, 2 GND, 3 Res

## SW-DPDT
designator S?
=Description
pins: 1 NC1, 2 COMMON1, 3 NO1, 4 NC2, 5 COMMON2, 6 NO2

## SW-PB
designator S?
=Description
pins: 1, 2

## Switch_2
designator S?
pins: 1, 2, 3

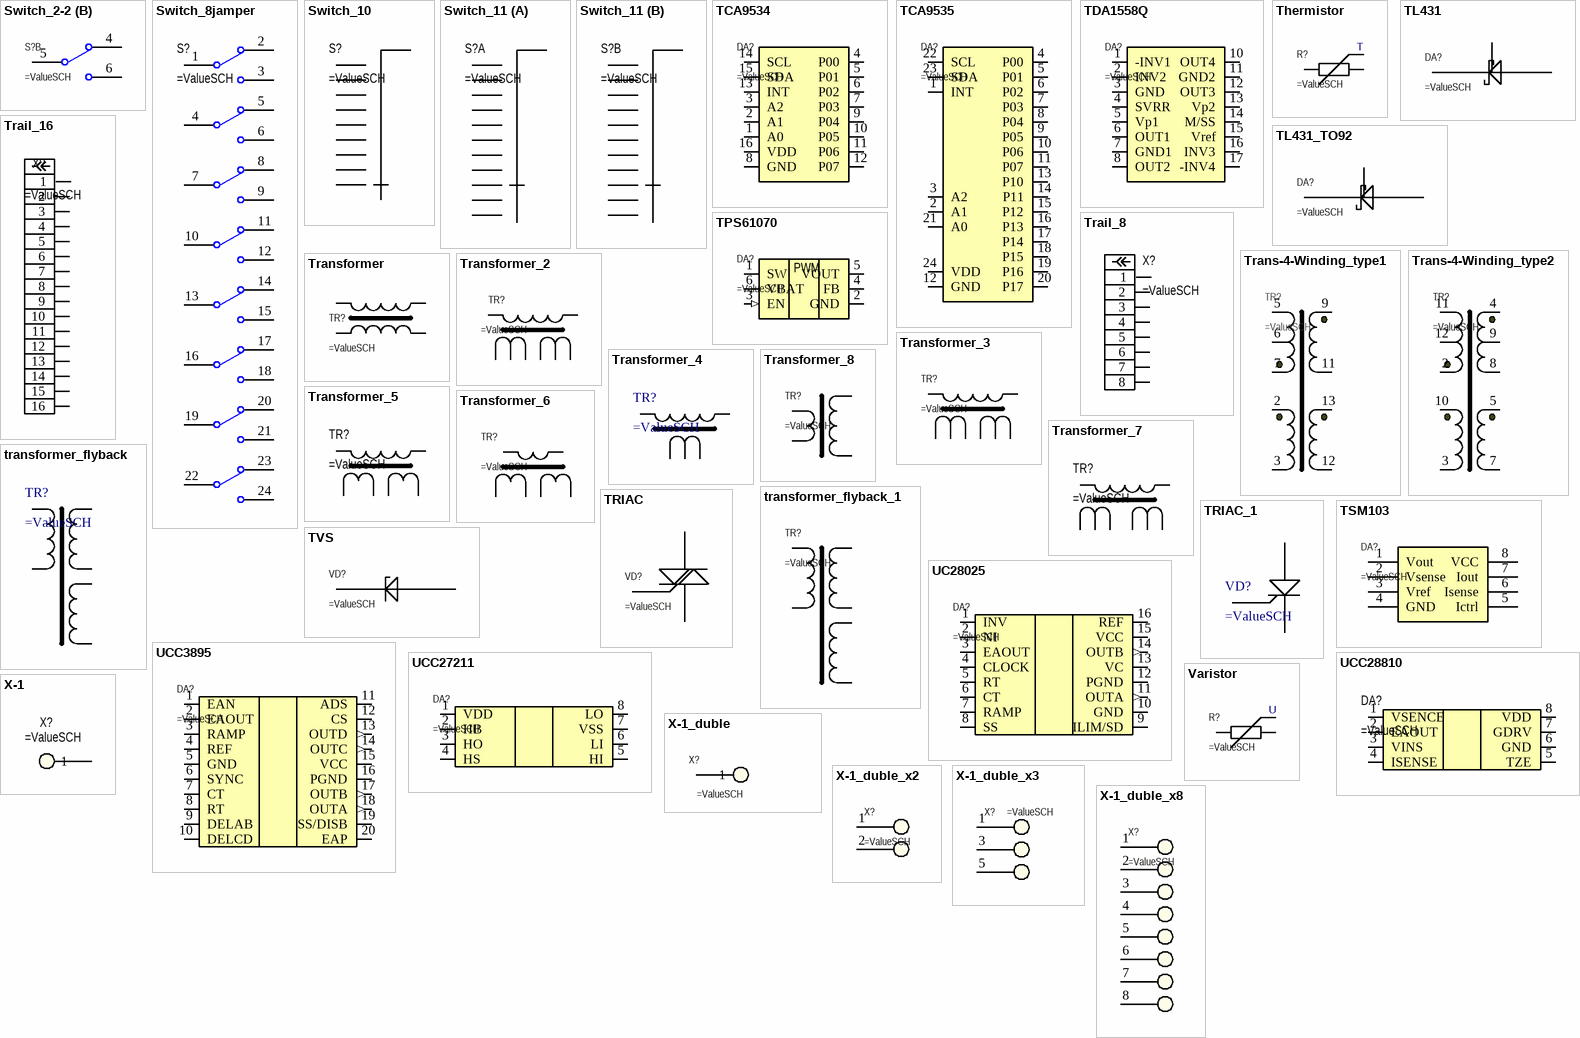
[diagram p6: symbols Switch_2-2 to X-1_duble_x8]

## Switch_2-2
designator S?
part A pins: 1, 2, 3
part B pins: 4, 5, 6

## Switch_8jamper
designator S?
pins: 1, 2, 3, 4, 5, 6, 7, 8, 9, 10, 11, 12, 13, 14, 15, 16, 17, 18, 19, 20, 21, 22, 23, 24

## Switch_10
designator S?
pins: 1, 2, 3, 4, 5, 6, 7, 8, 9, 10

## Switch_11
designator S?
part A pins: 1, 2, 3, 4, 5, 6, 7, 8, 9, 10, 11, 12
part B pins: 1, 2, 3, 4, 5, 6, 7, 8, 9, 10, 11, 12

## TCA9534
designator DA?
pins: 1 A0, 2 A1, 3 A2, 4 P00, 5 P01, 6 P02, 7 P03, 8 GND, 9 P04, 10 P05, 11 P06, 12 P07, 13 INT, 14 SCL, 15 SDA, 16 VDD

## TCA9535
designator DA?
pins: 1 INT, 2 A1, 3 A2, 4 P00, 5 P01, 6 P02, 7 P03, 8 P04, 9 P05, 10 P06, 11 P07, 12 GND, 13 P10, 14 P11, 15 P12, 16 P13, 17 P14, 18 P15, 19 P16, 20 P17, 21 A0, 22 SCL, 23 SDA, 24 VDD

## TDA1558Q
designator DA?
pins: 1 -INV1, 2 INV2, 3 GND, 4 SVRR, 5 Vp1, 6 OUT1, 7 GND1, 8 OUT2, 10 OUT4, 11 GND2, 12 OUT3, 13 Vp2, 14 M/SS, 15 Vref, 16 INV3, 17 -INV4

## Thermistor
designator R?
pins: 1, 2
text: T

## TL431
designator DA?
pins: 1 R, 2 C, 3 A

## TL431_TO92
designator DA?
pins: 1 R, 2 A, 3 C

## TPS61070
designator DA?
=Description
pins: 1 SW (power), 2 GND (power), 3 EN (in), 4 FB (power), 5 VOUT (power), 6 VBAT
text: PWM

## Trail_8
designator X?
pins: 1, 2, 3, 4, 5, 6, 7, 8

## Trail_16
designator X?
pins: 1, 2, 3, 4, 5, 6, 7, 8, 9, 10, 11, 12, 13, 14, 15, 16

## Trans-4-Winding_type1
designator TR?
pins: 2, 3, 5, 6, 7, 9, 11, 12, 13

## Trans-4-Winding_type2
designator TR?
pins: 2, 3, 4, 5, 7, 8, 9, 10, 11, 12

## Transformer
designator TR?
pins: 2 1, 7 2, 15 4, 20 3

## Transformer_2
designator TR?
pins: 2 1, 5 2, 7 6, 8 7, 9 8, 10 3, 11 4, 12 5

## Transformer_3
designator TR?
pins: 3 1, 5 2, 8 6, 9 7, 10 8, 11 3, 12 4, 13 5

## Transformer_4
designator TR?
pins: 5 2, 8 3, 10 4, 12 5, 14 1

## Transformer_5
designator TR?
pins: 1, 2, 3, 4, 5, 6

## Transformer_6
designator TR?
pins: 1, 2, 3, 4, 5, 6, 7 hidden to GND, 8 hidden to GND, GND 8 hidden to GND, GND 8 hidden to GND

## Transformer_7
designator TR?
pins: 5, 8 3, 9 4, 10 4, 11 5, 12 5, 13 6, 14

## Transformer_8
designator TR?
pins: 5 10, 14 12, 16 2, 18 1

## transformer_flyback
designator TR?
pins: 1, 2, 4, 5, 7, 9

## transformer_flyback_1
designator TR?
pins: 1, 2, 3, 5, 6, 10

## TRIAC
designator VD?
pins: 1 A1, 2 A2, 3 G

## TRIAC_1
designator VD?
pins: 1 K, 2 G, 3 A

## TSM103
designator DA?
pins: 1 Vout, 2 Vsense, 3 Vref, 4 GND (power), 5 Ictrl, 6 Isense, 7 Iout, 8 VCC (power)

## TVS
designator VD?
pins: 1 A, 2 C

## UC28025
designator DA?
pins: 1 INV, 2 NI, 3 EAOUT, 4 CLOCK, 5 RT (power), 6 CT, 7 RAMP, 8 SS, 9 ILIM/SD, 10 GND (power), 11 OUTA (out), 12 PGND (power), 13 VC, 14 OUTB (out), 15 VCC (power), 16 REF

## UCC3895
designator DA?
pins: 1 EAN, 2 EAOUT, 3 RAMP, 4 REF, 5 GND (power), 6 SYNC, 7 CT, 8 RT, 9 DELAB, 10 DELCD, 11 ADS, 12 CS, 13 OUTD (out), 14 OUTC (out), 15 VCC (power), 16 PGND (power), 17 OUTB (out), 18 OUTA (out), 19 SS/DISB, 20 EAP

## UCC27211
designator DA?
pins: 1 VDD, 2 HB, 3 HO, 4 HS, 5 HI, 6 LI, 7 VSS (power), 8 LO

## UCC28810
designator DA?
pins: 1 VSENCE, 2 EAOUT, 3 VINS, 4 ISENSE, 5 TZE (power), 6 GND, 7 GDRV, 8 VDD

## Varistor
designator R?
pins: 1, 2
text: U

## X-1
designator X?
pins: 1

## X-1_duble
designator X?
pins: 1, 2

## X-1_duble_x2
designator X?
pins: 1, 2

## X-1_duble_x3
designator X?
pins: 1, 2, 3, 4, 5, 6

## X-1_duble_x8
designator X?
pins: 1, 2, 3, 4, 5, 6, 7, 8

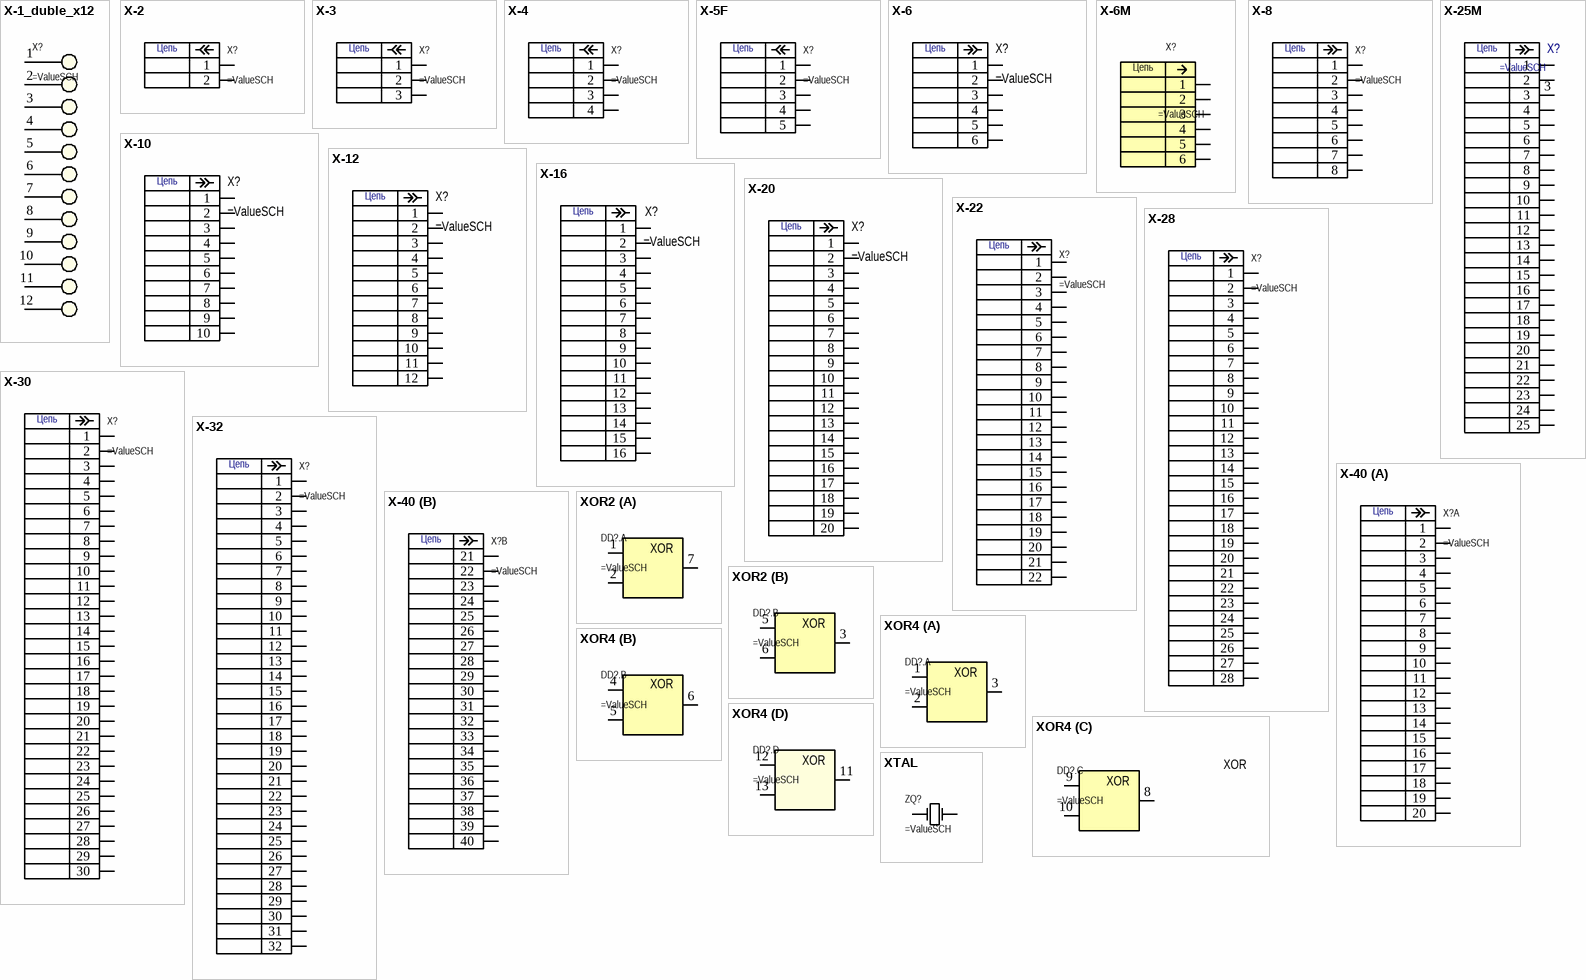
[diagram p7: symbols X-1_duble_x12 to XTAL]

## X-1_duble_x12
designator X?
pins: 1, 2, 3, 4, 5, 6, 7, 8, 9, 10, 11, 12

## X-2
designator X?
pins: 1, 2
text: Цепь

## X-3
designator X?
pins: 1, 2, 3
text: Цепь

## X-4
designator X?
pins: 1, 2, 3, 4
text: Цепь

## X-5F
designator X?
=Description
pins: 1, 2, 3, 4, 5
text: Цепь

## X-6
designator X?
pins: 1, 2, 3, 4, 5, 6
text: Цепь

## X-6M
designator X?
=Description
pins: 1, 2, 3, 4, 5, 6
text: Цепь

## X-8
designator X?
pins: 1, 2, 3, 4, 5, 6, 7, 8
text: Цепь

## X-10
designator X?
pins: 1, 2, 3, 4, 5, 6, 7, 8, 9, 10
text: Цепь

## X-12
designator X?
pins: 1, 2, 3, 4, 5, 6, 7, 8, 9, 10, 11, 12
text: Цепь

## X-16
designator X?
pins: 1, 2, 3, 4, 5, 6, 7, 8, 9, 10, 11, 12, 13, 14, 15, 16
text: Цепь

## X-20
designator X?
pins: 1, 2, 3, 4, 5, 6, 7, 8, 9, 10, 11, 12, 13, 14, 15, 16, 17, 18, 19, 20
text: Цепь

## X-22
designator X?
pins: 1, 2, 3, 4, 5, 6, 7, 8, 9, 10, 11, 12, 13, 14, 15, 16, 17, 18, 19, 20, 21, 22
text: Цепь

## X-25M
designator X?
pins: 1, 2, 3, 4, 5, 6, 7, 8, 9, 10, 11, 12, 13, 14, 15, 16, 17, 18, 19, 20, 21, 22, 23, 24, 25
text: Цепь

## X-28
designator X?
pins: 1, 2, 3, 4, 5, 6, 7, 8, 9, 10, 11, 12, 13, 14, 15, 16, 17, 18, 19, 20, 21, 22, 23, 24, 25, 26, 27, 28
text: Цепь

## X-30
designator X?
pins: 1, 2, 3, 4, 5, 6, 7, 8, 9, 10, 11, 12, 13, 14, 15, 16, 17, 18, 19, 20, 21, 22, 23, 24, 25, 26, 27, 28, 29, 30
text: Цепь

## X-32
designator X?
pins: 1, 2, 3, 4, 5, 6, 7, 8, 9, 10, 11, 12, 13, 14, 15, 16, 17, 18, 19, 20, 21, 22, 23, 24, 25, 26, 27, 28, 29, 30, 31, 32
text: Цепь

## X-40
designator X?
part A pins: 1, 2, 3, 4, 5, 6, 7, 8, 9, 10, 11, 12, 13, 14, 15, 16, 17, 18, 19, 20
part B pins: 21, 22, 23, 24, 25, 26, 27, 28, 29, 30, 31, 32, 33, 34, 35, 36, 37, 38, 39, 40
part A text: Цепь
part B text: Цепь

## XOR2
designator DD?.
part A pins: 1, 2, 4 GND (power) hidden to GND, 7, 8 VCC (power) hidden to VCC
part B pins: 3, 4 GND (power) hidden to GND, 5, 6, 8 VCC (power) hidden to VCC
part A text: XOR
part B text: XOR

## XOR4
designator DD?.
part A pins: 1, 2, 3, 7 GND (power) hidden to GND, 14 VCC (power) hidden to VCC
part B pins: 4, 5, 6, 7 GND (power) hidden to GND, 14 VCC (power) hidden to VCC
part C pins: 7 GND (power) hidden to GND, 8, 9, 10, 14 VCC (power) hidden to VCC
part D pins: 7 GND (power) hidden to GND, 11, 12, 13, 14 VCC (power) hidden to VCC
part A text: XOR
part B text: XOR
part C text: XOR
part D text: XOR

## XTAL
designator ZQ?
=Description
pins: 1 OSC1, 2 OSC2